# Altium schematic symbol library kmilo17pet-NSC_Amplifier.SchLib: 1665 symbols (part 31 of 44)
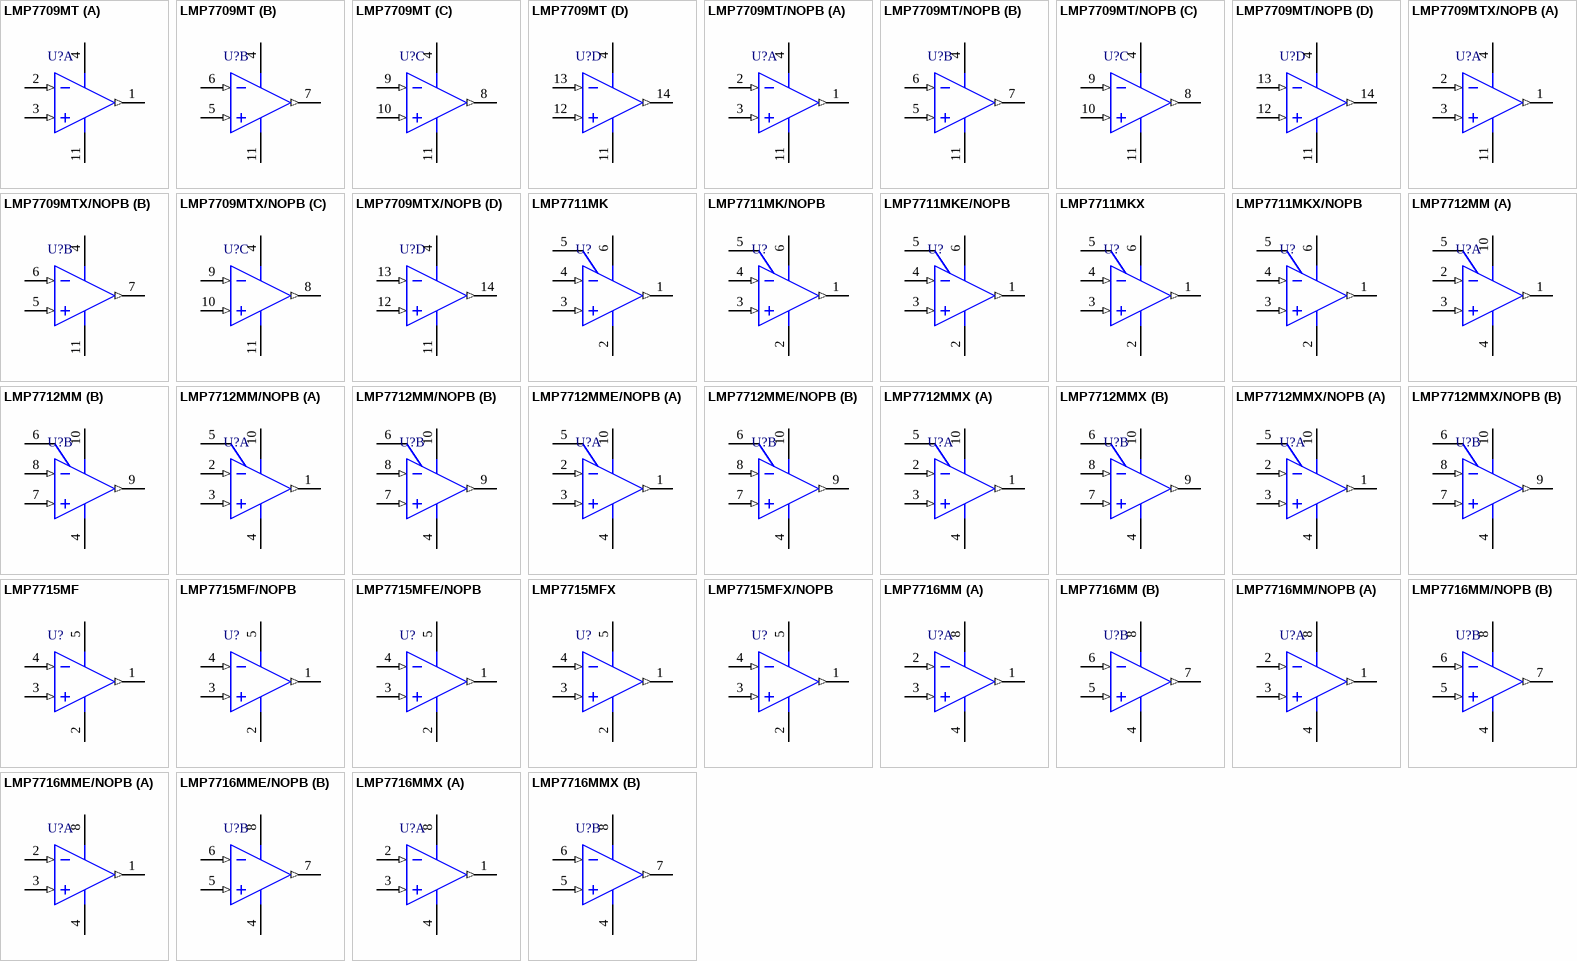
[diagram p114: symbols LMP7709MT to LMP7716MMX]

## LMP7712MM
designator U?
Dual Precision, 17 MHz, Low Noise, CMOS Input Amplifier, 10-pin MSOP; PartNumber: LMP7712MM; Manufacturer: National Semiconductor; PackageTopMarking: ZXTT*AD3A; PowerWise: Y; CompType: Amplifiers; DatasheetVersion: Jul-2008; PackageVersion: revB, Jul-2003; PackageReference: MUB10A; PackageDescription: Mini-SO, Molded, .118 x .118 x .034in Body, 10 Lead, .0197in Pitch; RoHS: Y; PinCount: 10; High-Reliability: Y; Code_JEDEC: MO-187-BA; ComponentLink1Description: Manufacturer URL; ComponentLink1URL: http://www.national.com/; ComponentLink2Description: LMP7712 Datasheet; ComponentLink2URL: http://www.national.com/ds/LM/LMP7712.pdf; ComponentLink3Description: LMP7712 Web Page; ComponentLink3URL: http://www.national.com/pf/LM/LMP7712.html; ComponentLink4Description: MUB10A Package Page; ComponentLink4URL: http://www.national.com/packaging/folders/mub10a.html
footprint MUB10A_N (TSSOP, 10-Leads, Body 3x3mm, Pitch 0.5mm, IPC Medium Density)
footprint MUB10A_L (TSSOP, 10-Leads, Body 3x3mm, Pitch 0.5mm, IPC High Density)
footprint MUB10A_M (TSSOP, 10-Leads, Body 3x3mm, Pitch 0.5mm, IPC Low Density)
pins on every part: 4 V- (power), 10 V+ (power)
part A pins: 1 OUTA (out), 2 INA- (in), 3 INA+ (in), 5 ENA
part B pins: 6 ENB, 7 INB+ (in), 8 INB- (in), 9 OUTB (out)

## LMP7712MM/NOPB
designator U?
Dual Precision, 17 MHz, Low Noise, CMOS Input Amplifier, 10-pin Mini SOIC, Pb-Free; PartNumber: LMP7712MM/NOPB; Manufacturer: National Semiconductor; PackageTopMarking: ZXTT*AD3A; PowerWise: Y; CompType: Amplifiers; DatasheetVersion: Jul-2008; PackageVersion: revB, Jul-2003; PackageReference: MUB10A; PackageDescription: Mini-SO, Molded, .118 x .118 x .034in Body, 10 Lead, .0197in Pitch; RoHS: Y; PinCount: 10; High-Reliability: Y; Code_JEDEC: MO-187-BA; ComponentLink1Description: Manufacturer URL; ComponentLink1URL: http://www.national.com/; ComponentLink2Description: LMP7712 Datasheet; ComponentLink2URL: http://www.national.com/ds/LM/LMP7712.pdf; ComponentLink3Description: LMP7712 Web Page; ComponentLink3URL: http://www.national.com/pf/LM/LMP7712.html; ComponentLink4Description: MUB10A Package Page; ComponentLink4URL: http://www.national.com/packaging/folders/mub10a.html
footprint MUB10A_N (TSSOP, 10-Leads, Body 3x3mm, Pitch 0.5mm, IPC Medium Density)
footprint MUB10A_L (TSSOP, 10-Leads, Body 3x3mm, Pitch 0.5mm, IPC High Density)
footprint MUB10A_M (TSSOP, 10-Leads, Body 3x3mm, Pitch 0.5mm, IPC Low Density)
pins on every part: 4 V- (power), 10 V+ (power)
part A pins: 1 OUTA (out), 2 INA- (in), 3 INA+ (in), 5 ENA
part B pins: 6 ENB, 7 INB+ (in), 8 INB- (in), 9 OUTB (out)

## LMP7712MME/NOPB
designator U?
Dual Precision, 17 MHz, Low Noise, CMOS Input Amplifier, 10-pin Mini SOIC, Pb-Free; PartNumber: LMP7712MME/NOPB; Manufacturer: National Semiconductor; PackageTopMarking: ZXTT*AD3A; PowerWise: N; CompType: Amplifiers; High-Reliability: Y; DatasheetVersion: Jul-2008; PackageVersion: revB, Jul-2003; PackageReference: MUB10A; PackageDescription: Mini-SO, Molded, .118 x .118 x .034in Body, 10 Lead, .0197in Pitch; RoHS: Y; PinCount: 10; Code_JEDEC: MO-187-BA; ComponentLink1Description: Manufacturer URL; ComponentLink1URL: http://www.national.com/; ComponentLink2Description: LMP7712 Datasheet; ComponentLink2URL: http://www.national.com/ds/LM/LMP7712.pdf; ComponentLink3Description: LMP7712 Web Page; ComponentLink3URL: http://www.national.com/pf/LM/LMP7712.html; ComponentLink4Description: MUB10A Package Page; ComponentLink4URL: http://www.national.com/packaging/folders/mub10a.html
footprint MUB10A_N (TSSOP, 10-Leads, Body 3x3mm, Pitch 0.5mm, IPC Medium Density)
footprint MUB10A_L (TSSOP, 10-Leads, Body 3x3mm, Pitch 0.5mm, IPC High Density)
footprint MUB10A_M (TSSOP, 10-Leads, Body 3x3mm, Pitch 0.5mm, IPC Low Density)
pins on every part: 4 V- (power), 10 V+ (power)
part A pins: 1 OUTA (out), 2 INA- (in), 3 INA+ (in), 5 ENA
part B pins: 6 ENB, 7 INB+ (in), 8 INB- (in), 9 OUTB (out)

## LMP7712MMX
designator U?
Dual Precision, 17 MHz, Low Noise, CMOS Input Amplifier, 10-pin Mini SOIC; PartNumber: LMP7712MMX; Manufacturer: National Semiconductor; PackageTopMarking: ZXTT*AD3A; PowerWise: Y; CompType: Amplifiers; DatasheetVersion: Jul-2008; PackageVersion: revB, Jul-2003; PackageReference: MUB10A; PackageDescription: Mini-SO, Molded, .118 x .118 x .034in Body, 10 Lead, .0197in Pitch; RoHS: N; PinCount: 10; High-Reliability: Y; Code_JEDEC: MO-187-BA; ComponentLink1Description: Manufacturer URL; ComponentLink1URL: http://www.national.com/; ComponentLink2Description: LMP7712 Datasheet; ComponentLink2URL: http://www.national.com/ds/LM/LMP7712.pdf; ComponentLink3Description: LMP7712 Web Page; ComponentLink3URL: http://www.national.com/pf/LM/LMP7712.html; ComponentLink4Description: MUB10A Package Page; ComponentLink4URL: http://www.national.com/packaging/folders/mub10a.html
footprint MUB10A_N (TSSOP, 10-Leads, Body 3x3mm, Pitch 0.5mm, IPC Medium Density)
footprint MUB10A_L (TSSOP, 10-Leads, Body 3x3mm, Pitch 0.5mm, IPC High Density)
footprint MUB10A_M (TSSOP, 10-Leads, Body 3x3mm, Pitch 0.5mm, IPC Low Density)
pins on every part: 4 V- (power), 10 V+ (power)
part A pins: 1 OUTA (out), 2 INA- (in), 3 INA+ (in), 5 ENA
part B pins: 6 ENB, 7 INB+ (in), 8 INB- (in), 9 OUTB (out)

## LMP7712MMX/NOPB
designator U?
Dual Precision, 17 MHz, Low Noise, CMOS Input Amplifier, 10-pin Mini SOIC, Pb-Free; PartNumber: LMP7712MMX/NOPB; Manufacturer: National Semiconductor; PackageTopMarking: ZXTT*AD3A; PowerWise: Y; CompType: Amplifiers; DatasheetVersion: Jul-2008; PackageVersion: revB, Jul-2003; PackageReference: MUB10A; PackageDescription: Mini-SO, Molded, .118 x .118 x .034in Body, 10 Lead, .0197in Pitch; RoHS: Y; PinCount: 10; High-Reliability: Y; Code_JEDEC: MO-187-BA; ComponentLink1Description: Manufacturer URL; ComponentLink1URL: http://www.national.com/; ComponentLink2Description: LMP7712 Datasheet; ComponentLink2URL: http://www.national.com/ds/LM/LMP7712.pdf; ComponentLink3Description: LMP7712 Web Page; ComponentLink3URL: http://www.national.com/pf/LM/LMP7712.html; ComponentLink4Description: MUB10A Package Page; ComponentLink4URL: http://www.national.com/packaging/folders/mub10a.html
footprint MUB10A_N (TSSOP, 10-Leads, Body 3x3mm, Pitch 0.5mm, IPC Medium Density)
footprint MUB10A_L (TSSOP, 10-Leads, Body 3x3mm, Pitch 0.5mm, IPC High Density)
footprint MUB10A_M (TSSOP, 10-Leads, Body 3x3mm, Pitch 0.5mm, IPC Low Density)
pins on every part: 4 V- (power), 10 V+ (power)
part A pins: 1 OUTA (out), 2 INA- (in), 3 INA+ (in), 5 ENA
part B pins: 6 ENB, 7 INB+ (in), 8 INB- (in), 9 OUTB (out)

## LMP7715MF
designator U?
Single Precision, 17 MHz, Low Noise, CMOS Input Amplifier, 5-pin SOT-23; PartNumber: LMP7715MF; Manufacturer: National Semiconductor; PackageTopMarking: AV3A*XTT; PowerWise: Y; CompType: Amplifiers; DatasheetVersion: Oct-2009; PackageVersion: revD, Aug-2008; PackageReference: MF05A; PackageDescription: Molded SOT-23, .115 x .063 x .040 in Body, 5 Lead, .0375 in Pitch; RoHS: N; PinCount: 5; High-Reliability: Y; ComponentLink1Description: Manufacturer URL; ComponentLink1URL: http://www.national.com/; ComponentLink2Description: LMP7715 Datasheet; ComponentLink2URL: http://www.national.com/ds/LM/LMP7715.pdf; ComponentLink3Description: LMP7715 Web Page; ComponentLink3URL: http://www.national.com/pf/LM/LMP7715.html; ComponentLink4Description: MF05A Package Page; ComponentLink4URL: http://www.national.com/packaging/folders/mf05a.html
footprint MF05A_N (SOT23, 5-Leads, Body 2.9x1.6mm, Pitch 0.95mm, Lead Span 2.8mm, IPC Medium Density)
footprint MF05A_L (SOT23, 5-Leads, Body 2.9x1.6mm, Pitch 0.95mm, Lead Span 2.8mm, IPC High Density)
footprint MF05A_M (SOT23, 5-Leads, Body 2.9x1.6mm, Pitch 0.95mm, Lead Span 2.8mm, IPC Low Density)
pins: 1 OUT (out), 2 V- (power), 3 IN+ (in), 4 IN- (in), 5 V+ (power)

## LMP7715MF/NOPB
designator U?
Single Precision, 17 MHz, Low Noise, CMOS Input Amplifier, 5-pin SOT-23, Pb-Free; PartNumber: LMP7715MF/NOPB; Manufacturer: National Semiconductor; PackageTopMarking: AV3A*XTT; PowerWise: Y; CompType: Amplifiers; DatasheetVersion: Oct-2009; PackageVersion: revD, Aug-2008; PackageReference: MF05A; PackageDescription: Molded SOT-23, .115 x .063 x .040 in Body, 5 Lead, .0375 in Pitch; RoHS: Y; PinCount: 5; High-Reliability: Y; ComponentLink1Description: Manufacturer URL; ComponentLink1URL: http://www.national.com/; ComponentLink2Description: LMP7715 Datasheet; ComponentLink2URL: http://www.national.com/ds/LM/LMP7715.pdf; ComponentLink3Description: LMP7715 Web Page; ComponentLink3URL: http://www.national.com/pf/LM/LMP7715.html; ComponentLink4Description: MF05A Package Page; ComponentLink4URL: http://www.national.com/packaging/folders/mf05a.html
footprint MF05A_N (SOT23, 5-Leads, Body 2.9x1.6mm, Pitch 0.95mm, Lead Span 2.8mm, IPC Medium Density)
footprint MF05A_L (SOT23, 5-Leads, Body 2.9x1.6mm, Pitch 0.95mm, Lead Span 2.8mm, IPC High Density)
footprint MF05A_M (SOT23, 5-Leads, Body 2.9x1.6mm, Pitch 0.95mm, Lead Span 2.8mm, IPC Low Density)
pins: 1 OUT (out), 2 V- (power), 3 IN+ (in), 4 IN- (in), 5 V+ (power)

## LMP7715MFE/NOPB
designator U?
Single Precision, 17 MHz, Low Noise, CMOS Input Amplifier, 5-pin SOT-23, Pb-Free; PartNumber: LMP7715MFE/NOPB; Manufacturer: National Semiconductor; PackageTopMarking: AV3A*XTT; PowerWise: N; CompType: Amplifiers; High-Reliability: Y; DatasheetVersion: Oct-2009; PackageVersion: revD, Aug-2008; PackageReference: MF05A; PackageDescription: Molded SOT-23, .115 x .063 x .040 in Body, 5 Lead, .0375 in Pitch; RoHS: Y; PinCount: 5; ComponentLink1Description: Manufacturer URL; ComponentLink1URL: http://www.national.com/; ComponentLink2Description: LMP7715 Datasheet; ComponentLink2URL: http://www.national.com/ds/LM/LMP7715.pdf; ComponentLink3Description: LMP7715 Web Page; ComponentLink3URL: http://www.national.com/pf/LM/LMP7715.html; ComponentLink4Description: MF05A Package Page; ComponentLink4URL: http://www.national.com/packaging/folders/mf05a.html
footprint MF05A_N (SOT23, 5-Leads, Body 2.9x1.6mm, Pitch 0.95mm, Lead Span 2.8mm, IPC Medium Density)
footprint MF05A_L (SOT23, 5-Leads, Body 2.9x1.6mm, Pitch 0.95mm, Lead Span 2.8mm, IPC High Density)
footprint MF05A_M (SOT23, 5-Leads, Body 2.9x1.6mm, Pitch 0.95mm, Lead Span 2.8mm, IPC Low Density)
pins: 1 OUT (out), 2 V- (power), 3 IN+ (in), 4 IN- (in), 5 V+ (power)

## LMP7715MFX
designator U?
Single Precision, 17 MHz, Low Noise, CMOS Input Amplifier, 5-pin SOT-23; PartNumber: LMP7715MFX; Manufacturer: National Semiconductor; PackageTopMarking: AV3A*XTT; PowerWise: Y; CompType: Amplifiers; DatasheetVersion: Oct-2009; PackageVersion: revD, Aug-2008; PackageReference: MF05A; PackageDescription: Molded SOT-23, .115 x .063 x .040 in Body, 5 Lead, .0375 in Pitch; RoHS: N; PinCount: 5; High-Reliability: Y; ComponentLink1Description: Manufacturer URL; ComponentLink1URL: http://www.national.com/; ComponentLink2Description: LMP7715 Datasheet; ComponentLink2URL: http://www.national.com/ds/LM/LMP7715.pdf; ComponentLink3Description: LMP7715 Web Page; ComponentLink3URL: http://www.national.com/pf/LM/LMP7715.html; ComponentLink4Description: MF05A Package Page; ComponentLink4URL: http://www.national.com/packaging/folders/mf05a.html
footprint MF05A_N (SOT23, 5-Leads, Body 2.9x1.6mm, Pitch 0.95mm, Lead Span 2.8mm, IPC Medium Density)
footprint MF05A_L (SOT23, 5-Leads, Body 2.9x1.6mm, Pitch 0.95mm, Lead Span 2.8mm, IPC High Density)
footprint MF05A_M (SOT23, 5-Leads, Body 2.9x1.6mm, Pitch 0.95mm, Lead Span 2.8mm, IPC Low Density)
pins: 1 OUT (out), 2 V- (power), 3 IN+ (in), 4 IN- (in), 5 V+ (power)

## LMP7715MFX/NOPB
designator U?
Single Precision, 17 MHz, Low Noise, CMOS Input Amplifier, 5-pin SOT-23, Pb-Free; PartNumber: LMP7715MFX/NOPB; Manufacturer: National Semiconductor; PackageTopMarking: AV3A*XTT; PowerWise: Y; CompType: Amplifiers; DatasheetVersion: Oct-2009; PackageVersion: revD, Aug-2008; PackageReference: MF05A; PackageDescription: Molded SOT-23, .115 x .063 x .040 in Body, 5 Lead, .0375 in Pitch; RoHS: Y; PinCount: 5; High-Reliability: Y; ComponentLink1Description: Manufacturer URL; ComponentLink1URL: http://www.national.com/; ComponentLink2Description: LMP7715 Datasheet; ComponentLink2URL: http://www.national.com/ds/LM/LMP7715.pdf; ComponentLink3Description: LMP7715 Web Page; ComponentLink3URL: http://www.national.com/pf/LM/LMP7715.html; ComponentLink4Description: MF05A Package Page; ComponentLink4URL: http://www.national.com/packaging/folders/mf05a.html
footprint MF05A_N (SOT23, 5-Leads, Body 2.9x1.6mm, Pitch 0.95mm, Lead Span 2.8mm, IPC Medium Density)
footprint MF05A_L (SOT23, 5-Leads, Body 2.9x1.6mm, Pitch 0.95mm, Lead Span 2.8mm, IPC High Density)
footprint MF05A_M (SOT23, 5-Leads, Body 2.9x1.6mm, Pitch 0.95mm, Lead Span 2.8mm, IPC Low Density)
pins: 1 OUT (out), 2 V- (power), 3 IN+ (in), 4 IN- (in), 5 V+ (power)

## LMP7716MM
designator U?
Dual Precision, 17 MHz, Low Noise, CMOS Input Amplifier, 8-pin Mini SOIC; PartNumber: LMP7716MM; Manufacturer: National Semiconductor; PackageTopMarking: ZXTT*AX3A; PowerWise: Y; CompType: Amplifiers; DatasheetVersion: Oct-2009; PackageVersion: revF, Apr-2008; PackageReference: MUA08A; PackageDescription: MINI SOIC, .118 x .118 x .034in, 8 Lead, .0256in Pitch; RoHS: N; PinCount: 8; High-Reliability: Y; Code_JEDEC: MO-187-AA; ComponentLink1Description: Manufacturer URL; ComponentLink1URL: http://www.national.com/; ComponentLink2Description: LMP7716 Datasheet; ComponentLink2URL: http://www.national.com/ds/LM/LMP7716.pdf; ComponentLink3Description: LMP7716 Web Page; ComponentLink3URL: http://www.national.com/pf/LM/LMP7716.html; ComponentLink4Description: MUA08A Package Page; ComponentLink4URL: http://www.national.com/packaging/folders/mua08a.html
footprint MUA08A_N (TSOP, 8-Leads, Body 3x3mm, Pitch 0.65mm, IPC Medium Density)
footprint MUA08A_L (TSOP, 8-Leads, Body 3x3mm, Pitch 0.65mm, IPC High Density)
footprint MUA08A_M (TSOP, 8-Leads, Body 3x3mm, Pitch 0.65mm, IPC Low Density)
pins on every part: 4 V- (power), 8 V+ (power)
part A pins: 1 OUTA (out), 2 INA- (in), 3 INA+ (in)
part B pins: 5 INB+ (in), 6 INB- (in), 7 OUTB (out)

## LMP7716MM/NOPB
designator U?
Dual Precision, 17 MHz, Low Noise, CMOS Input Amplifier, 8-pin Mini SOIC, Pb-Free; PartNumber: LMP7716MM/NOPB; Manufacturer: National Semiconductor; PackageTopMarking: ZXTT*AX3A; PowerWise: Y; CompType: Amplifiers; DatasheetVersion: Oct-2009; PackageVersion: revF, Apr-2008; PackageReference: MUA08A; PackageDescription: MINI SOIC, .118 x .118 x .034in, 8 Lead, .0256in Pitch; RoHS: Y; PinCount: 8; High-Reliability: Y; Code_JEDEC: MO-187-AA; ComponentLink1Description: Manufacturer URL; ComponentLink1URL: http://www.national.com/; ComponentLink2Description: LMP7716 Datasheet; ComponentLink2URL: http://www.national.com/ds/LM/LMP7716.pdf; ComponentLink3Description: LMP7716 Web Page; ComponentLink3URL: http://www.national.com/pf/LM/LMP7716.html; ComponentLink4Description: MUA08A Package Page; ComponentLink4URL: http://www.national.com/packaging/folders/mua08a.html
footprint MUA08A_N (TSOP, 8-Leads, Body 3x3mm, Pitch 0.65mm, IPC Medium Density)
footprint MUA08A_L (TSOP, 8-Leads, Body 3x3mm, Pitch 0.65mm, IPC High Density)
footprint MUA08A_M (TSOP, 8-Leads, Body 3x3mm, Pitch 0.65mm, IPC Low Density)
pins on every part: 4 V- (power), 8 V+ (power)
part A pins: 1 OUTA (out), 2 INA- (in), 3 INA+ (in)
part B pins: 5 INB+ (in), 6 INB- (in), 7 OUTB (out)

## LMP7716MME/NOPB
designator U?
Dual Precision, 17 MHz, Low Noise, CMOS Input Amplifier, 8-pin Mini SOIC, Pb-Free; PartNumber: LMP7716MME/NOPB; Manufacturer: National Semiconductor; PackageTopMarking: ZXTT*AX3A; PowerWise: Y; CompType: Amplifiers; DatasheetVersion: Oct-2009; PackageVersion: revF, Apr-2008; PackageReference: MUA08A; PackageDescription: MINI SOIC, .118 x .118 x .034in, 8 Lead, .0256in Pitch; RoHS: Y; PinCount: 8; High-Reliability: Y; Code_JEDEC: MO-187-AA; ComponentLink1Description: Manufacturer URL; ComponentLink1URL: http://www.national.com/; ComponentLink2Description: LMP7716 Datasheet; ComponentLink2URL: http://www.national.com/ds/LM/LMP7716.pdf; ComponentLink3Description: LMP7716 Web Page; ComponentLink3URL: http://www.national.com/pf/LM/LMP7716.html; ComponentLink4Description: MUA08A Package Page; ComponentLink4URL: http://www.national.com/packaging/folders/mua08a.html
footprint MUA08A_N (TSOP, 8-Leads, Body 3x3mm, Pitch 0.65mm, IPC Medium Density)
footprint MUA08A_L (TSOP, 8-Leads, Body 3x3mm, Pitch 0.65mm, IPC High Density)
footprint MUA08A_M (TSOP, 8-Leads, Body 3x3mm, Pitch 0.65mm, IPC Low Density)
pins on every part: 4 V- (power), 8 V+ (power)
part A pins: 1 OUTA (out), 2 INA- (in), 3 INA+ (in)
part B pins: 5 INB+ (in), 6 INB- (in), 7 OUTB (out)

## LMP7716MMX
designator U?
Dual Precision, 17 MHz, Low Noise, CMOS Input Amplifier, 8-pin Mini SOIC; PartNumber: LMP7716MMX; Manufacturer: National Semiconductor; PackageTopMarking: ZXTT*AX3A; PowerWise: Y; CompType: Amplifiers; DatasheetVersion: Oct-2009; PackageVersion: revF, Apr-2008; PackageReference: MUA08A; PackageDescription: MINI SOIC, .118 x .118 x .034in, 8 Lead, .0256in Pitch; RoHS: N; PinCount: 8; High-Reliability: Y; Code_JEDEC: MO-187-AA; ComponentLink1Description: Manufacturer URL; ComponentLink1URL: http://www.national.com/; ComponentLink2Description: LMP7716 Datasheet; ComponentLink2URL: http://www.national.com/ds/LM/LMP7716.pdf; ComponentLink3Description: LMP7716 Web Page; ComponentLink3URL: http://www.national.com/pf/LM/LMP7716.html; ComponentLink4Description: MUA08A Package Page; ComponentLink4URL: http://www.national.com/packaging/folders/mua08a.html
footprint MUA08A_N (TSOP, 8-Leads, Body 3x3mm, Pitch 0.65mm, IPC Medium Density)
footprint MUA08A_L (TSOP, 8-Leads, Body 3x3mm, Pitch 0.65mm, IPC High Density)
footprint MUA08A_M (TSOP, 8-Leads, Body 3x3mm, Pitch 0.65mm, IPC Low Density)
pins on every part: 4 V- (power), 8 V+ (power)
part A pins: 1 OUTA (out), 2 INA- (in), 3 INA+ (in)
part B pins: 5 INB+ (in), 6 INB- (in), 7 OUTB (out)

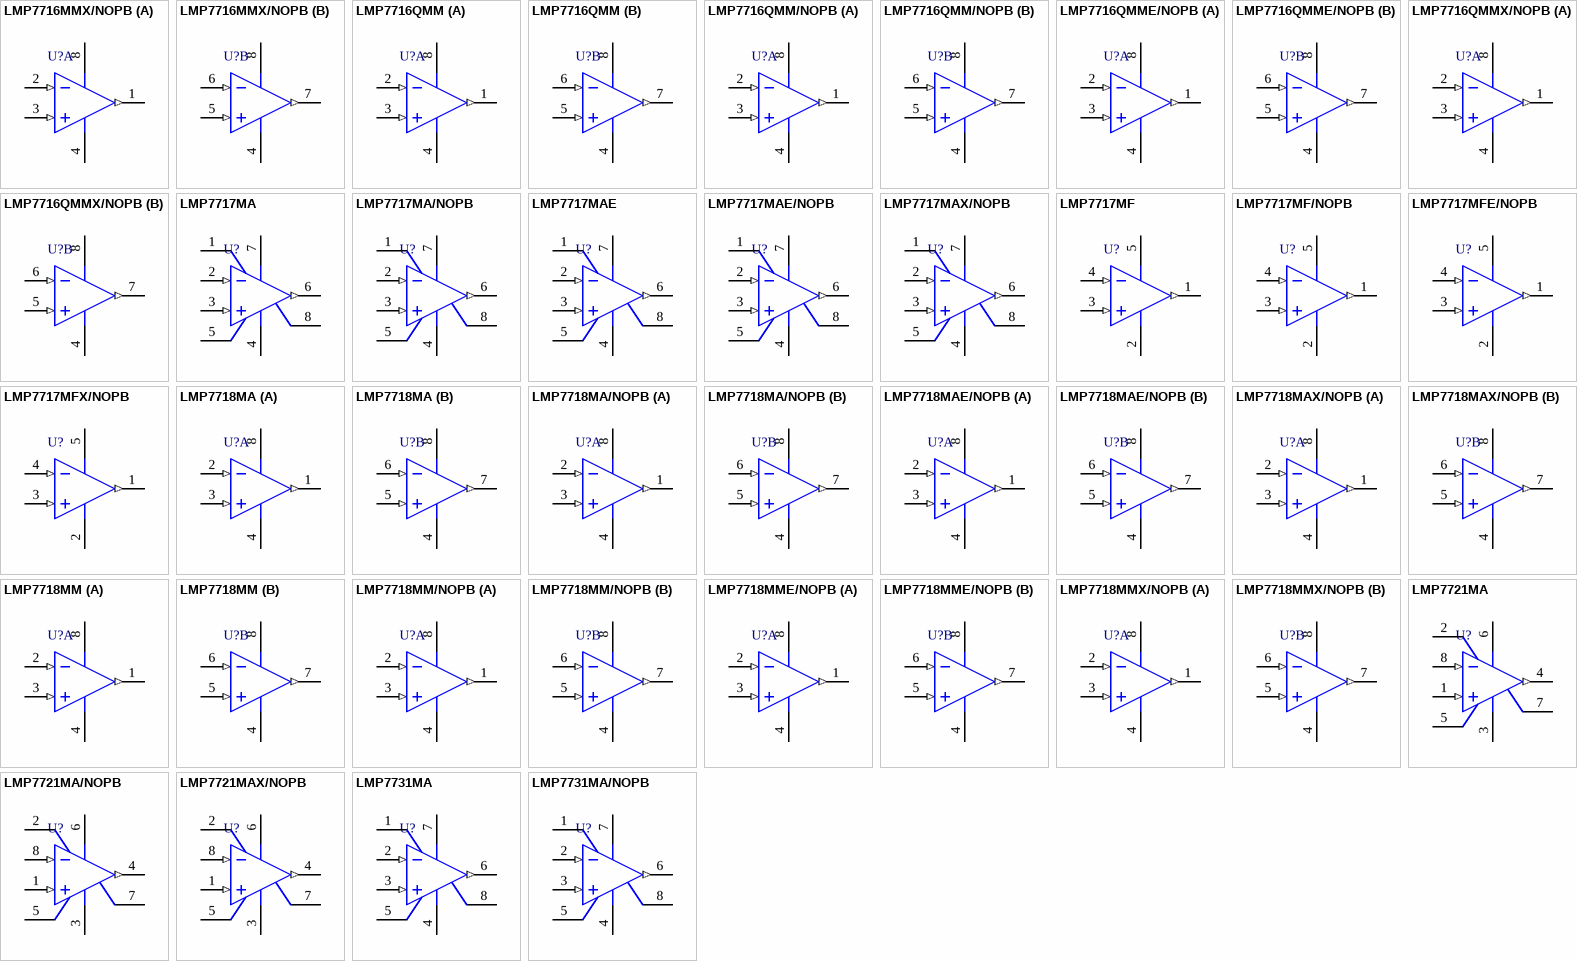
[diagram p62: symbols LMP7716MMX/NOPB to LMP7731MA/NOPB]

## LMP7716MMX/NOPB
designator U?
Dual Precision, 17 MHz, Low Noise, CMOS Input Amplifier, 8-pin Mini SOIC, Pb-Free; PartNumber: LMP7716MMX/NOPB; Manufacturer: National Semiconductor; PackageTopMarking: ZXTT*AX3A; PowerWise: Y; CompType: Amplifiers; DatasheetVersion: Oct-2009; PackageVersion: revF, Apr-2008; PackageReference: MUA08A; PackageDescription: MINI SOIC, .118 x .118 x .034in, 8 Lead, .0256in Pitch; RoHS: Y; PinCount: 8; High-Reliability: Y; Code_JEDEC: MO-187-AA; ComponentLink1Description: Manufacturer URL; ComponentLink1URL: http://www.national.com/; ComponentLink2Description: LMP7716 Datasheet; ComponentLink2URL: http://www.national.com/ds/LM/LMP7716.pdf; ComponentLink3Description: LMP7716 Web Page; ComponentLink3URL: http://www.national.com/pf/LM/LMP7716.html; ComponentLink4Description: MUA08A Package Page; ComponentLink4URL: http://www.national.com/packaging/folders/mua08a.html
footprint MUA08A_N (TSOP, 8-Leads, Body 3x3mm, Pitch 0.65mm, IPC Medium Density)
footprint MUA08A_L (TSOP, 8-Leads, Body 3x3mm, Pitch 0.65mm, IPC High Density)
footprint MUA08A_M (TSOP, 8-Leads, Body 3x3mm, Pitch 0.65mm, IPC Low Density)
pins on every part: 4 V- (power), 8 V+ (power)
part A pins: 1 OUTA (out), 2 INA- (in), 3 INA+ (in)
part B pins: 5 INB+ (in), 6 INB- (in), 7 OUTB (out)

## LMP7716QMM
designator U?
Dual Precision, 17 MHz, Low Noise, CMOS Input Amplifier, 8-pin Mini SOIC; PartNumber: LMP7716QMM; Manufacturer: National Semiconductor; PackageTopMarking: ZXTT*AR5A; PowerWise: Y; CompType: Amplifiers; DatasheetVersion: Oct-2009; PackageVersion: revF, Apr-2008; PackageReference: MUA08A; PackageDescription: MINI SOIC, .118 x .118 x .034in, 8 Lead, .0256in Pitch; RoHS: Y; PinCount: 8; High-Reliability: Y; Code_JEDEC: MO-187-AA; ComponentLink1Description: Manufacturer URL; ComponentLink1URL: http://www.national.com/; ComponentLink2Description: LMP7716 Datasheet; ComponentLink2URL: http://www.national.com/ds/LM/LMP7716.pdf; ComponentLink3Description: LMP7716 Web Page; ComponentLink3URL: http://www.national.com/pf/LM/LMP7716.html; ComponentLink4Description: MUA08A Package Page; ComponentLink4URL: http://www.national.com/packaging/folders/mua08a.html
footprint MUA08A_N (TSOP, 8-Leads, Body 3x3mm, Pitch 0.65mm, IPC Medium Density)
footprint MUA08A_L (TSOP, 8-Leads, Body 3x3mm, Pitch 0.65mm, IPC High Density)
footprint MUA08A_M (TSOP, 8-Leads, Body 3x3mm, Pitch 0.65mm, IPC Low Density)
pins on every part: 4 V- (power), 8 V+ (power)
part A pins: 1 OUTA (out), 2 INA- (in), 3 INA+ (in)
part B pins: 5 INB+ (in), 6 INB- (in), 7 OUTB (out)

## LMP7716QMM/NOPB
designator U?
Dual Precision, 17 MHz, Low Noise, CMOS Input Amplifier, 8-pin Mini SOIC, Pb-Free; PartNumber: LMP7716QMM/NOPB; Manufacturer: National Semiconductor; PackageTopMarking: ZXTT*AR5A; PowerWise: Y; CompType: Amplifiers; DatasheetVersion: Oct-2009; PackageVersion: revF, Apr-2008; PackageReference: MUA08A; PackageDescription: MINI SOIC, .118 x .118 x .034in, 8 Lead, .0256in Pitch; RoHS: Y; PinCount: 8; High-Reliability: Y; Code_JEDEC: MO-187-AA; ComponentLink1Description: Manufacturer URL; ComponentLink1URL: http://www.national.com/; ComponentLink2Description: LMP7716 Datasheet; ComponentLink2URL: http://www.national.com/ds/LM/LMP7716.pdf; ComponentLink3Description: LMP7716 Web Page; ComponentLink3URL: http://www.national.com/pf/LM/LMP7716.html; ComponentLink4Description: MUA08A Package Page; ComponentLink4URL: http://www.national.com/packaging/folders/mua08a.html
footprint MUA08A_N (TSOP, 8-Leads, Body 3x3mm, Pitch 0.65mm, IPC Medium Density)
footprint MUA08A_L (TSOP, 8-Leads, Body 3x3mm, Pitch 0.65mm, IPC High Density)
footprint MUA08A_M (TSOP, 8-Leads, Body 3x3mm, Pitch 0.65mm, IPC Low Density)
pins on every part: 4 V- (power), 8 V+ (power)
part A pins: 1 OUTA (out), 2 INA- (in), 3 INA+ (in)
part B pins: 5 INB+ (in), 6 INB- (in), 7 OUTB (out)

## LMP7716QMME/NOPB
designator U?
Dual Precision, 17 MHz, Low Noise, CMOS Input Amplifier, 8-pin Mini SOIC, Pb-Free; PartNumber: LMP7716QMME/NOPB; Manufacturer: National Semiconductor; PackageTopMarking: ZXTT*AR5A; PowerWise: Y; CompType: Amplifiers; DatasheetVersion: Oct-2009; PackageVersion: revF, Apr-2008; PackageReference: MUA08A; PackageDescription: MINI SOIC, .118 x .118 x .034in, 8 Lead, .0256in Pitch; RoHS: Y; PinCount: 8; High-Reliability: Y; Code_JEDEC: MO-187-AA; ComponentLink1Description: Manufacturer URL; ComponentLink1URL: http://www.national.com/; ComponentLink2Description: LMP7716 Datasheet; ComponentLink2URL: http://www.national.com/ds/LM/LMP7716.pdf; ComponentLink3Description: LMP7716 Web Page; ComponentLink3URL: http://www.national.com/pf/LM/LMP7716.html; ComponentLink4Description: MUA08A Package Page; ComponentLink4URL: http://www.national.com/packaging/folders/mua08a.html
footprint MUA08A_N (TSOP, 8-Leads, Body 3x3mm, Pitch 0.65mm, IPC Medium Density)
footprint MUA08A_L (TSOP, 8-Leads, Body 3x3mm, Pitch 0.65mm, IPC High Density)
footprint MUA08A_M (TSOP, 8-Leads, Body 3x3mm, Pitch 0.65mm, IPC Low Density)
pins on every part: 4 V- (power), 8 V+ (power)
part A pins: 1 OUTA (out), 2 INA- (in), 3 INA+ (in)
part B pins: 5 INB+ (in), 6 INB- (in), 7 OUTB (out)

## LMP7716QMMX/NOPB
designator U?
Dual Precision, 17 MHz, Low Noise, CMOS Input Amplifier, 8-pin Mini SOIC, Pb-Free; PartNumber: LMP7716QMMX/NOPB; Manufacturer: National Semiconductor; PackageTopMarking: ZXTT*AR5A; PowerWise: Y; CompType: Amplifiers; DatasheetVersion: Oct-2009; PackageVersion: revF, Apr-2008; PackageReference: MUA08A; PackageDescription: MINI SOIC, .118 x .118 x .034in, 8 Lead, .0256in Pitch; RoHS: Y; PinCount: 8; High-Reliability: Y; Code_JEDEC: MO-187-AA; ComponentLink1Description: Manufacturer URL; ComponentLink1URL: http://www.national.com/; ComponentLink2Description: LMP7716 Datasheet; ComponentLink2URL: http://www.national.com/ds/LM/LMP7716.pdf; ComponentLink3Description: LMP7716 Web Page; ComponentLink3URL: http://www.national.com/pf/LM/LMP7716.html; ComponentLink4Description: MUA08A Package Page; ComponentLink4URL: http://www.national.com/packaging/folders/mua08a.html
footprint MUA08A_N (TSOP, 8-Leads, Body 3x3mm, Pitch 0.65mm, IPC Medium Density)
footprint MUA08A_L (TSOP, 8-Leads, Body 3x3mm, Pitch 0.65mm, IPC High Density)
footprint MUA08A_M (TSOP, 8-Leads, Body 3x3mm, Pitch 0.65mm, IPC Low Density)
pins on every part: 4 V- (power), 8 V+ (power)
part A pins: 1 OUTA (out), 2 INA- (in), 3 INA+ (in)
part B pins: 5 INB+ (in), 6 INB- (in), 7 OUTB (out)

## LMP7717MA
designator U?
88 MHz, Precision, Low Noise, 1.8V CMOS Input, Decompensated Operational Amplifier, 8-pin Narrow SOIC; PartNumber: LMP7717MA; Manufacturer: National Semiconductor; PackageTopMarking: NSZXTT*LMP77*17MA; PowerWise: Y; CompType: Amplifiers; DatasheetVersion: Aug-2008; PackageVersion: revM, May-2009; PackageReference: M08A; PackageDescription: SOIC Narrow, 4.9 x 3.9 x 1.45mm, 8 Lead, 1.27mm Pitch; RoHS: Y; PinCount: 8; High-Reliability: Y; Code_JEDEC: MS-012-AA; Code_IPC: SOIC127P600-8; ComponentLink1Description: Manufacturer URL; ComponentLink1URL: http://www.national.com/; ComponentLink2Description: LMP7717 Datasheet; ComponentLink2URL: http://www.national.com/ds/LM/LMP7717.pdf; ComponentLink3Description: LMP7717 Web Page; ComponentLink3URL: http://www.national.com/pf/LM/LMP7717.html; ComponentLink4Description: M08A Package Page; ComponentLink4URL: http://www.national.com/packaging/folders/m08a.html
footprint M08A_N (SOIC, 8-Leads, Body 4.9x3.9mm, Pitch 1.27mm, IPC Medium Density)
footprint M08A_L (SOIC, 8-Leads, Body 4.9x3.9mm, Pitch 1.27mm, IPC High Density)
footprint M08A_M (SOIC, 8-Leads, Body 4.9x3.9mm, Pitch 1.27mm, IPC Low Density)
pins: 1 NC, 2 IN- (in), 3 IN+ (in), 4 V- (power), 5 NC, 6 OUT (out), 7 V+ (power), 8 NC

## LMP7717MA/NOPB
designator U?
88 MHz, Precision, Low Noise, 1.8V CMOS Input, Decompensated Operational Amplifier, 8-pin Narrow SOIC, Pb-Free; PartNumber: LMP7717MA/NOPB; Manufacturer: National Semiconductor; PackageTopMarking: NSZXTT*LMP77*17MA; PowerWise: Y; CompType: Amplifiers; DatasheetVersion: Aug-2008; PackageVersion: revM, May-2009; PackageReference: M08A; PackageDescription: SOIC Narrow, 4.9 x 3.9 x 1.45mm, 8 Lead, 1.27mm Pitch; RoHS: Y; PinCount: 8; High-Reliability: Y; Code_JEDEC: MS-012-AA; Code_IPC: SOIC127P600-8; ComponentLink1Description: Manufacturer URL; ComponentLink1URL: http://www.national.com/; ComponentLink2Description: LMP7717 Datasheet; ComponentLink2URL: http://www.national.com/ds/LM/LMP7717.pdf; ComponentLink3Description: LMP7717 Web Page; ComponentLink3URL: http://www.national.com/pf/LM/LMP7717.html; ComponentLink4Description: M08A Package Page; ComponentLink4URL: http://www.national.com/packaging/folders/m08a.html
footprint M08A_N (SOIC, 8-Leads, Body 4.9x3.9mm, Pitch 1.27mm, IPC Medium Density)
footprint M08A_L (SOIC, 8-Leads, Body 4.9x3.9mm, Pitch 1.27mm, IPC High Density)
footprint M08A_M (SOIC, 8-Leads, Body 4.9x3.9mm, Pitch 1.27mm, IPC Low Density)
pins: 1 NC, 2 IN- (in), 3 IN+ (in), 4 V- (power), 5 NC, 6 OUT (out), 7 V+ (power), 8 NC

## LMP7717MAE
designator U?
88 MHz, Precision, Low Noise, 1.8V CMOS Input, Decompensated Operational Amplifier, 8-pin Narrow SOIC; PartNumber: LMP7717MAE; Manufacturer: National Semiconductor; PackageTopMarking: NSZXTT*LMP77*17MA; PowerWise: N; CompType: Amplifiers; High-Reliability: Y; DatasheetVersion: Aug-2008; PackageVersion: revM, May-2009; PackageReference: M08A; PackageDescription: SOIC Narrow, 4.9 x 3.9 x 1.45mm, 8 Lead, 1.27mm Pitch; RoHS: N; PinCount: 8; Code_JEDEC: MS-012-AA; Code_IPC: SOIC127P600-8; ComponentLink1Description: Manufacturer URL; ComponentLink1URL: http://www.national.com/; ComponentLink2Description: LMP7717 Datasheet; ComponentLink2URL: http://www.national.com/ds/LM/LMP7717.pdf; ComponentLink3Description: LMP7717 Web Page; ComponentLink3URL: http://www.national.com/pf/LM/LMP7717.html; ComponentLink4Description: M08A Package Page; ComponentLink4URL: http://www.national.com/packaging/folders/m08a.html
footprint M08A_N (SOIC, 8-Leads, Body 4.9x3.9mm, Pitch 1.27mm, IPC Medium Density)
footprint M08A_L (SOIC, 8-Leads, Body 4.9x3.9mm, Pitch 1.27mm, IPC High Density)
footprint M08A_M (SOIC, 8-Leads, Body 4.9x3.9mm, Pitch 1.27mm, IPC Low Density)
pins: 1 NC, 2 IN- (in), 3 IN+ (in), 4 V- (power), 5 NC, 6 OUT (out), 7 V+ (power), 8 NC

## LMP7717MAE/NOPB
designator U?
88 MHz, Precision, Low Noise, 1.8V CMOS Input, Decompensated Operational Amplifier, 8-pin Narrow SOIC, Pb-Free; PartNumber: LMP7717MAE/NOPB; Manufacturer: National Semiconductor; PackageTopMarking: NSZXTT*LMP77*17MA; PowerWise: N; CompType: Amplifiers; High-Reliability: Y; DatasheetVersion: Aug-2008; PackageVersion: revM, May-2009; PackageReference: M08A; PackageDescription: SOIC Narrow, 4.9 x 3.9 x 1.45mm, 8 Lead, 1.27mm Pitch; RoHS: Y; PinCount: 8; Code_JEDEC: MS-012-AA; Code_IPC: SOIC127P600-8; ComponentLink1Description: Manufacturer URL; ComponentLink1URL: http://www.national.com/; ComponentLink2Description: LMP7717 Datasheet; ComponentLink2URL: http://www.national.com/ds/LM/LMP7717.pdf; ComponentLink3Description: LMP7717 Web Page; ComponentLink3URL: http://www.national.com/pf/LM/LMP7717.html; ComponentLink4Description: M08A Package Page; ComponentLink4URL: http://www.national.com/packaging/folders/m08a.html
footprint M08A_N (SOIC, 8-Leads, Body 4.9x3.9mm, Pitch 1.27mm, IPC Medium Density)
footprint M08A_L (SOIC, 8-Leads, Body 4.9x3.9mm, Pitch 1.27mm, IPC High Density)
footprint M08A_M (SOIC, 8-Leads, Body 4.9x3.9mm, Pitch 1.27mm, IPC Low Density)
pins: 1 NC, 2 IN- (in), 3 IN+ (in), 4 V- (power), 5 NC, 6 OUT (out), 7 V+ (power), 8 NC

## LMP7717MAX/NOPB
designator U?
88 MHz, Precision, Low Noise, 1.8V CMOS Input, Decompensated Operational Amplifier, 8-pin Narrow SOIC, Pb-Free; PartNumber: LMP7717MAX/NOPB; Manufacturer: National Semiconductor; PackageTopMarking: NSZXTT*LMP77*17MA; PowerWise: Y; CompType: Amplifiers; DatasheetVersion: Aug-2008; PackageVersion: revM, May-2009; PackageReference: M08A; PackageDescription: SOIC Narrow, 4.9 x 3.9 x 1.45mm, 8 Lead, 1.27mm Pitch; RoHS: Y; PinCount: 8; High-Reliability: Y; Code_JEDEC: MS-012-AA; Code_IPC: SOIC127P600-8; ComponentLink1Description: Manufacturer URL; ComponentLink1URL: http://www.national.com/; ComponentLink2Description: LMP7717 Datasheet; ComponentLink2URL: http://www.national.com/ds/LM/LMP7717.pdf; ComponentLink3Description: LMP7717 Web Page; ComponentLink3URL: http://www.national.com/pf/LM/LMP7717.html; ComponentLink4Description: M08A Package Page; ComponentLink4URL: http://www.national.com/packaging/folders/m08a.html
footprint M08A_N (SOIC, 8-Leads, Body 4.9x3.9mm, Pitch 1.27mm, IPC Medium Density)
footprint M08A_L (SOIC, 8-Leads, Body 4.9x3.9mm, Pitch 1.27mm, IPC High Density)
footprint M08A_M (SOIC, 8-Leads, Body 4.9x3.9mm, Pitch 1.27mm, IPC Low Density)
pins: 1 NC, 2 IN- (in), 3 IN+ (in), 4 V- (power), 5 NC, 6 OUT (out), 7 V+ (power), 8 NC

## LMP7717MF
designator U?
88 MHz, Precision, Low Noise, 1.8V CMOS Input, Decompensated Operational Amplifier, 5-pin SOT-23; PartNumber: LMP7717MF; Manufacturer: National Semiconductor; PackageTopMarking: AT4A*XTT; PowerWise: Y; CompType: Amplifiers; DatasheetVersion: Aug-2008; PackageVersion: revD, Aug-2008; PackageReference: MF05A; PackageDescription: Molded SOT-23, .115 x .063 x .040 in Body, 5 Lead, .0375 in Pitch; RoHS: Y; PinCount: 5; High-Reliability: Y; ComponentLink1Description: Manufacturer URL; ComponentLink1URL: http://www.national.com/; ComponentLink2Description: LMP7717 Datasheet; ComponentLink2URL: http://www.national.com/ds/LM/LMP7717.pdf; ComponentLink3Description: LMP7717 Web Page; ComponentLink3URL: http://www.national.com/pf/LM/LMP7717.html; ComponentLink4Description: MF05A Package Page; ComponentLink4URL: http://www.national.com/packaging/folders/mf05a.html
footprint MF05A_N (SOT23, 5-Leads, Body 2.9x1.6mm, Pitch 0.95mm, Lead Span 2.8mm, IPC Medium Density)
footprint MF05A_L (SOT23, 5-Leads, Body 2.9x1.6mm, Pitch 0.95mm, Lead Span 2.8mm, IPC High Density)
footprint MF05A_M (SOT23, 5-Leads, Body 2.9x1.6mm, Pitch 0.95mm, Lead Span 2.8mm, IPC Low Density)
pins: 1 OUT (out), 2 V- (power), 3 IN+ (in), 4 IN- (in), 5 V+ (power)

## LMP7717MF/NOPB
designator U?
88 MHz, Precision, Low Noise, 1.8V CMOS Input, Decompensated Operational Amplifier, 5-pin SOT-23, Pb-Free; PartNumber: LMP7717MF/NOPB; Manufacturer: National Semiconductor; PackageTopMarking: AT4A*XTT; PowerWise: Y; CompType: Amplifiers; DatasheetVersion: Aug-2008; PackageVersion: revD, Aug-2008; PackageReference: MF05A; PackageDescription: Molded SOT-23, .115 x .063 x .040 in Body, 5 Lead, .0375 in Pitch; RoHS: Y; PinCount: 5; High-Reliability: Y; ComponentLink1Description: Manufacturer URL; ComponentLink1URL: http://www.national.com/; ComponentLink2Description: LMP7717 Datasheet; ComponentLink2URL: http://www.national.com/ds/LM/LMP7717.pdf; ComponentLink3Description: LMP7717 Web Page; ComponentLink3URL: http://www.national.com/pf/LM/LMP7717.html; ComponentLink4Description: MF05A Package Page; ComponentLink4URL: http://www.national.com/packaging/folders/mf05a.html
footprint MF05A_N (SOT23, 5-Leads, Body 2.9x1.6mm, Pitch 0.95mm, Lead Span 2.8mm, IPC Medium Density)
footprint MF05A_L (SOT23, 5-Leads, Body 2.9x1.6mm, Pitch 0.95mm, Lead Span 2.8mm, IPC High Density)
footprint MF05A_M (SOT23, 5-Leads, Body 2.9x1.6mm, Pitch 0.95mm, Lead Span 2.8mm, IPC Low Density)
pins: 1 OUT (out), 2 V- (power), 3 IN+ (in), 4 IN- (in), 5 V+ (power)

## LMP7717MFE/NOPB
designator U?
88 MHz, Precision, Low Noise, 1.8V CMOS Input, Decompensated Operational Amplifier, 5-pin SOT-23, Pb-Free; PartNumber: LMP7717MFE/NOPB; Manufacturer: National Semiconductor; PackageTopMarking: AT4A*XTT; PowerWise: N; CompType: Amplifiers; High-Reliability: Y; DatasheetVersion: Aug-2008; PackageVersion: revD, Aug-2008; PackageReference: MF05A; PackageDescription: Molded SOT-23, .115 x .063 x .040 in Body, 5 Lead, .0375 in Pitch; RoHS: Y; PinCount: 5; ComponentLink1Description: Manufacturer URL; ComponentLink1URL: http://www.national.com/; ComponentLink2Description: LMP7717 Datasheet; ComponentLink2URL: http://www.national.com/ds/LM/LMP7717.pdf; ComponentLink3Description: LMP7717 Web Page; ComponentLink3URL: http://www.national.com/pf/LM/LMP7717.html; ComponentLink4Description: MF05A Package Page; ComponentLink4URL: http://www.national.com/packaging/folders/mf05a.html
footprint MF05A_N (SOT23, 5-Leads, Body 2.9x1.6mm, Pitch 0.95mm, Lead Span 2.8mm, IPC Medium Density)
footprint MF05A_L (SOT23, 5-Leads, Body 2.9x1.6mm, Pitch 0.95mm, Lead Span 2.8mm, IPC High Density)
footprint MF05A_M (SOT23, 5-Leads, Body 2.9x1.6mm, Pitch 0.95mm, Lead Span 2.8mm, IPC Low Density)
pins: 1 OUT (out), 2 V- (power), 3 IN+ (in), 4 IN- (in), 5 V+ (power)

## LMP7717MFX/NOPB
designator U?
88 MHz, Precision, Low Noise, 1.8V CMOS Input, Decompensated Operational Amplifier, 5-pin SOT-23, Pb-Free; PartNumber: LMP7717MFX/NOPB; Manufacturer: National Semiconductor; PackageTopMarking: AT4A*XTT; PowerWise: Y; CompType: Amplifiers; DatasheetVersion: Aug-2008; PackageVersion: revD, Aug-2008; PackageReference: MF05A; PackageDescription: Molded SOT-23, .115 x .063 x .040 in Body, 5 Lead, .0375 in Pitch; RoHS: Y; PinCount: 5; High-Reliability: Y; ComponentLink1Description: Manufacturer URL; ComponentLink1URL: http://www.national.com/; ComponentLink2Description: LMP7717 Datasheet; ComponentLink2URL: http://www.national.com/ds/LM/LMP7717.pdf; ComponentLink3Description: LMP7717 Web Page; ComponentLink3URL: http://www.national.com/pf/LM/LMP7717.html; ComponentLink4Description: MF05A Package Page; ComponentLink4URL: http://www.national.com/packaging/folders/mf05a.html
footprint MF05A_N (SOT23, 5-Leads, Body 2.9x1.6mm, Pitch 0.95mm, Lead Span 2.8mm, IPC Medium Density)
footprint MF05A_L (SOT23, 5-Leads, Body 2.9x1.6mm, Pitch 0.95mm, Lead Span 2.8mm, IPC High Density)
footprint MF05A_M (SOT23, 5-Leads, Body 2.9x1.6mm, Pitch 0.95mm, Lead Span 2.8mm, IPC Low Density)
pins: 1 OUT (out), 2 V- (power), 3 IN+ (in), 4 IN- (in), 5 V+ (power)

## LMP7718MA
designator U?
88 MHz, Precision, Low Noise, 1.8V CMOS Input, Decompensated Operational Amplifier, 8-pin Narrow SOIC; PartNumber: LMP7718MA; Manufacturer: National Semiconductor; PackageTopMarking: NSZXTT*LMP77*18MA; PowerWise: Y; CompType: Amplifiers; DatasheetVersion: Aug-2008; PackageVersion: revM, May-2009; PackageReference: M08A; PackageDescription: SOIC Narrow, 4.9 x 3.9 x 1.45mm, 8 Lead, 1.27mm Pitch; RoHS: Y; PinCount: 8; High-Reliability: Y; Code_JEDEC: MS-012-AA; Code_IPC: SOIC127P600-8; ComponentLink1Description: Manufacturer URL; ComponentLink1URL: http://www.national.com/; ComponentLink2Description: LMP7718 Datasheet; ComponentLink2URL: http://www.national.com/ds/LM/LMP7718.pdf; ComponentLink3Description: LMP7718 Web Page; ComponentLink3URL: http://www.national.com/pf/LM/LMP7718.html; ComponentLink4Description: M08A Package Page; ComponentLink4URL: http://www.national.com/packaging/folders/m08a.html
footprint M08A_N (SOIC, 8-Leads, Body 4.9x3.9mm, Pitch 1.27mm, IPC Medium Density)
footprint M08A_L (SOIC, 8-Leads, Body 4.9x3.9mm, Pitch 1.27mm, IPC High Density)
footprint M08A_M (SOIC, 8-Leads, Body 4.9x3.9mm, Pitch 1.27mm, IPC Low Density)
pins on every part: 4 V- (power), 8 V+ (power)
part A pins: 1 OUTA (out), 2 INA- (in), 3 INA+ (in)
part B pins: 5 INB+ (in), 6 INB- (in), 7 OUTB (out)

## LMP7718MA/NOPB
designator U?
88 MHz, Precision, Low Noise, 1.8V CMOS Input, Decompensated Operational Amplifier, 8-pin Narrow SOIC, Pb-Free; PartNumber: LMP7718MA/NOPB; Manufacturer: National Semiconductor; PackageTopMarking: NSZXTT*LMP77*18MA; PowerWise: Y; CompType: Amplifiers; DatasheetVersion: Aug-2008; PackageVersion: revM, May-2009; PackageReference: M08A; PackageDescription: SOIC Narrow, 4.9 x 3.9 x 1.45mm, 8 Lead, 1.27mm Pitch; RoHS: Y; PinCount: 8; High-Reliability: Y; Code_JEDEC: MS-012-AA; Code_IPC: SOIC127P600-8; ComponentLink1Description: Manufacturer URL; ComponentLink1URL: http://www.national.com/; ComponentLink2Description: LMP7718 Datasheet; ComponentLink2URL: http://www.national.com/ds/LM/LMP7718.pdf; ComponentLink3Description: LMP7718 Web Page; ComponentLink3URL: http://www.national.com/pf/LM/LMP7718.html; ComponentLink4Description: M08A Package Page; ComponentLink4URL: http://www.national.com/packaging/folders/m08a.html
footprint M08A_N (SOIC, 8-Leads, Body 4.9x3.9mm, Pitch 1.27mm, IPC Medium Density)
footprint M08A_L (SOIC, 8-Leads, Body 4.9x3.9mm, Pitch 1.27mm, IPC High Density)
footprint M08A_M (SOIC, 8-Leads, Body 4.9x3.9mm, Pitch 1.27mm, IPC Low Density)
pins on every part: 4 V- (power), 8 V+ (power)
part A pins: 1 OUTA (out), 2 INA- (in), 3 INA+ (in)
part B pins: 5 INB+ (in), 6 INB- (in), 7 OUTB (out)

## LMP7718MAE/NOPB
designator U?
88 MHz, Precision, Low Noise, 1.8V CMOS Input, Decompensated Operational Amplifier, 8-pin Narrow SOIC, Pb-Free; PartNumber: LMP7718MAE/NOPB; Manufacturer: National Semiconductor; PackageTopMarking: NSZXTT*LMP77*18MA; PowerWise: Y; CompType: Amplifiers; DatasheetVersion: Aug-2008; PackageVersion: revM, May-2009; PackageReference: M08A; PackageDescription: SOIC Narrow, 4.9 x 3.9 x 1.45mm, 8 Lead, 1.27mm Pitch; RoHS: Y; PinCount: 8; High-Reliability: Y; Code_JEDEC: MS-012-AA; Code_IPC: SOIC127P600-8; ComponentLink1Description: Manufacturer URL; ComponentLink1URL: http://www.national.com/; ComponentLink2Description: LMP7718 Datasheet; ComponentLink2URL: http://www.national.com/ds/LM/LMP7718.pdf; ComponentLink3Description: LMP7718 Web Page; ComponentLink3URL: http://www.national.com/pf/LM/LMP7718.html; ComponentLink4Description: M08A Package Page; ComponentLink4URL: http://www.national.com/packaging/folders/m08a.html
footprint M08A_N (SOIC, 8-Leads, Body 4.9x3.9mm, Pitch 1.27mm, IPC Medium Density)
footprint M08A_L (SOIC, 8-Leads, Body 4.9x3.9mm, Pitch 1.27mm, IPC High Density)
footprint M08A_M (SOIC, 8-Leads, Body 4.9x3.9mm, Pitch 1.27mm, IPC Low Density)
pins on every part: 4 V- (power), 8 V+ (power)
part A pins: 1 OUTA (out), 2 INA- (in), 3 INA+ (in)
part B pins: 5 INB+ (in), 6 INB- (in), 7 OUTB (out)

## LMP7718MAX/NOPB
designator U?
88 MHz, Precision, Low Noise, 1.8V CMOS Input, Decompensated Operational Amplifier, 8-pin Narrow SOIC, Pb-Free; PartNumber: LMP7718MAX/NOPB; Manufacturer: National Semiconductor; PackageTopMarking: NSZXTT*LMP77*18MA; PowerWise: Y; CompType: Amplifiers; DatasheetVersion: Aug-2008; PackageVersion: revM, May-2009; PackageReference: M08A; PackageDescription: SOIC Narrow, 4.9 x 3.9 x 1.45mm, 8 Lead, 1.27mm Pitch; RoHS: Y; PinCount: 8; High-Reliability: Y; Code_JEDEC: MS-012-AA; Code_IPC: SOIC127P600-8; ComponentLink1Description: Manufacturer URL; ComponentLink1URL: http://www.national.com/; ComponentLink2Description: LMP7718 Datasheet; ComponentLink2URL: http://www.national.com/ds/LM/LMP7718.pdf; ComponentLink3Description: LMP7718 Web Page; ComponentLink3URL: http://www.national.com/pf/LM/LMP7718.html; ComponentLink4Description: M08A Package Page; ComponentLink4URL: http://www.national.com/packaging/folders/m08a.html
footprint M08A_N (SOIC, 8-Leads, Body 4.9x3.9mm, Pitch 1.27mm, IPC Medium Density)
footprint M08A_L (SOIC, 8-Leads, Body 4.9x3.9mm, Pitch 1.27mm, IPC High Density)
footprint M08A_M (SOIC, 8-Leads, Body 4.9x3.9mm, Pitch 1.27mm, IPC Low Density)
pins on every part: 4 V- (power), 8 V+ (power)
part A pins: 1 OUTA (out), 2 INA- (in), 3 INA+ (in)
part B pins: 5 INB+ (in), 6 INB- (in), 7 OUTB (out)

## LMP7718MM
designator U?
88 MHz, Precision, Low Noise, 1.8V CMOS Input, Decompensated Operational Amplifier, 8-pin Mini SOIC; PartNumber: LMP7718MM; Manufacturer: National Semiconductor; PackageTopMarking: ZXTT*AP4A; PowerWise: Y; CompType: Amplifiers; DatasheetVersion: Aug-2008; PackageVersion: revF, Apr-2008; PackageReference: MUA08A; PackageDescription: MINI SOIC, .118 x .118 x .034in, 8 Lead, .0256in Pitch; RoHS: Y; PinCount: 8; High-Reliability: Y; Code_JEDEC: MO-187-AA; ComponentLink1Description: Manufacturer URL; ComponentLink1URL: http://www.national.com/; ComponentLink2Description: LMP7718 Datasheet; ComponentLink2URL: http://www.national.com/ds/LM/LMP7718.pdf; ComponentLink3Description: LMP7718 Web Page; ComponentLink3URL: http://www.national.com/pf/LM/LMP7718.html; ComponentLink4Description: MUA08A Package Page; ComponentLink4URL: http://www.national.com/packaging/folders/mua08a.html
footprint MUA08A_N (TSOP, 8-Leads, Body 3x3mm, Pitch 0.65mm, IPC Medium Density)
footprint MUA08A_L (TSOP, 8-Leads, Body 3x3mm, Pitch 0.65mm, IPC High Density)
footprint MUA08A_M (TSOP, 8-Leads, Body 3x3mm, Pitch 0.65mm, IPC Low Density)
pins on every part: 4 V- (power), 8 V+ (power)
part A pins: 1 OUTA (out), 2 INA- (in), 3 INA+ (in)
part B pins: 5 INB+ (in), 6 INB- (in), 7 OUTB (out)

## LMP7718MM/NOPB
designator U?
88 MHz, Precision, Low Noise, 1.8V CMOS Input, Decompensated Operational Amplifier, 8-pin Mini SOIC, Pb-Free; PartNumber: LMP7718MM/NOPB; Manufacturer: National Semiconductor; PackageTopMarking: ZXTT*AP4A; PowerWise: Y; CompType: Amplifiers; DatasheetVersion: Aug-2008; PackageVersion: revF, Apr-2008; PackageReference: MUA08A; PackageDescription: MINI SOIC, .118 x .118 x .034in, 8 Lead, .0256in Pitch; RoHS: Y; PinCount: 8; High-Reliability: Y; Code_JEDEC: MO-187-AA; ComponentLink1Description: Manufacturer URL; ComponentLink1URL: http://www.national.com/; ComponentLink2Description: LMP7718 Datasheet; ComponentLink2URL: http://www.national.com/ds/LM/LMP7718.pdf; ComponentLink3Description: LMP7718 Web Page; ComponentLink3URL: http://www.national.com/pf/LM/LMP7718.html; ComponentLink4Description: MUA08A Package Page; ComponentLink4URL: http://www.national.com/packaging/folders/mua08a.html
footprint MUA08A_N (TSOP, 8-Leads, Body 3x3mm, Pitch 0.65mm, IPC Medium Density)
footprint MUA08A_L (TSOP, 8-Leads, Body 3x3mm, Pitch 0.65mm, IPC High Density)
footprint MUA08A_M (TSOP, 8-Leads, Body 3x3mm, Pitch 0.65mm, IPC Low Density)
pins on every part: 4 V- (power), 8 V+ (power)
part A pins: 1 OUTA (out), 2 INA- (in), 3 INA+ (in)
part B pins: 5 INB+ (in), 6 INB- (in), 7 OUTB (out)

## LMP7718MME/NOPB
designator U?
88 MHz, Precision, Low Noise, 1.8V CMOS Input, Decompensated Operational Amplifier, 8-pin Mini SOIC, Pb-Free; PartNumber: LMP7718MME/NOPB; Manufacturer: National Semiconductor; PackageTopMarking: ZXTT*AP4A; PowerWise: Y; CompType: Amplifiers; DatasheetVersion: Aug-2008; PackageVersion: revF, Apr-2008; PackageReference: MUA08A; PackageDescription: MINI SOIC, .118 x .118 x .034in, 8 Lead, .0256in Pitch; RoHS: Y; PinCount: 8; High-Reliability: Y; Code_JEDEC: MO-187-AA; ComponentLink1Description: Manufacturer URL; ComponentLink1URL: http://www.national.com/; ComponentLink2Description: LMP7718 Datasheet; ComponentLink2URL: http://www.national.com/ds/LM/LMP7718.pdf; ComponentLink3Description: LMP7718 Web Page; ComponentLink3URL: http://www.national.com/pf/LM/LMP7718.html; ComponentLink4Description: MUA08A Package Page; ComponentLink4URL: http://www.national.com/packaging/folders/mua08a.html
footprint MUA08A_N (TSOP, 8-Leads, Body 3x3mm, Pitch 0.65mm, IPC Medium Density)
footprint MUA08A_L (TSOP, 8-Leads, Body 3x3mm, Pitch 0.65mm, IPC High Density)
footprint MUA08A_M (TSOP, 8-Leads, Body 3x3mm, Pitch 0.65mm, IPC Low Density)
pins on every part: 4 V- (power), 8 V+ (power)
part A pins: 1 OUTA (out), 2 INA- (in), 3 INA+ (in)
part B pins: 5 INB+ (in), 6 INB- (in), 7 OUTB (out)

## LMP7718MMX/NOPB
designator U?
88 MHz, Precision, Low Noise, 1.8V CMOS Input, Decompensated Operational Amplifier, 8-pin Mini SOIC, Pb-Free; PartNumber: LMP7718MMX/NOPB; Manufacturer: National Semiconductor; PackageTopMarking: ZXTT*AP4A; PowerWise: Y; CompType: Amplifiers; DatasheetVersion: Aug-2008; PackageVersion: revF, Apr-2008; PackageReference: MUA08A; PackageDescription: MINI SOIC, .118 x .118 x .034in, 8 Lead, .0256in Pitch; RoHS: Y; PinCount: 8; High-Reliability: Y; Code_JEDEC: MO-187-AA; ComponentLink1Description: Manufacturer URL; ComponentLink1URL: http://www.national.com/; ComponentLink2Description: LMP7718 Datasheet; ComponentLink2URL: http://www.national.com/ds/LM/LMP7718.pdf; ComponentLink3Description: LMP7718 Web Page; ComponentLink3URL: http://www.national.com/pf/LM/LMP7718.html; ComponentLink4Description: MUA08A Package Page; ComponentLink4URL: http://www.national.com/packaging/folders/mua08a.html
footprint MUA08A_N (TSOP, 8-Leads, Body 3x3mm, Pitch 0.65mm, IPC Medium Density)
footprint MUA08A_L (TSOP, 8-Leads, Body 3x3mm, Pitch 0.65mm, IPC High Density)
footprint MUA08A_M (TSOP, 8-Leads, Body 3x3mm, Pitch 0.65mm, IPC Low Density)
pins on every part: 4 V- (power), 8 V+ (power)
part A pins: 1 OUTA (out), 2 INA- (in), 3 INA+ (in)
part B pins: 5 INB+ (in), 6 INB- (in), 7 OUTB (out)

## LMP7721MA
designator U?
3 Femtoampere Input Bias Current Precision Amplifier, 8-pin Narrow SOIC; PartNumber: LMP7721MA; Manufacturer: National Semiconductor; PackageTopMarking: NSZXTT*LMP77*21MA; PowerWise: Y; CompType: Amplifiers; DatasheetVersion: Mar-2008; PackageVersion: revM, May-2009; PackageReference: M08A; PackageDescription: SOIC Narrow, 4.9 x 3.9 x 1.45mm, 8 Lead, 1.27mm Pitch; RoHS: Y; PinCount: 8; High-Reliability: Y; Code_JEDEC: MS-012-AA; Code_IPC: SOIC127P600-8; ComponentLink1Description: Manufacturer URL; ComponentLink1URL: http://www.national.com/; ComponentLink2Description: LMP7721 Datasheet; ComponentLink2URL: http://www.national.com/ds/LM/LMP7721.pdf; ComponentLink3Description: LMP7721 Web Page; ComponentLink3URL: http://www.national.com/pf/LM/LMP7721.html; ComponentLink4Description: M08A Package Page; ComponentLink4URL: http://www.national.com/packaging/folders/m08a.html
footprint M08A_N (SOIC, 8-Leads, Body 4.9x3.9mm, Pitch 1.27mm, IPC Medium Density)
footprint M08A_L (SOIC, 8-Leads, Body 4.9x3.9mm, Pitch 1.27mm, IPC High Density)
footprint M08A_M (SOIC, 8-Leads, Body 4.9x3.9mm, Pitch 1.27mm, IPC Low Density)
pins: 1 IN+ (in), 2 NC, 3 V- (power), 4 OUT (out), 5 NC, 6 V+ (power), 7 NC, 8 IN- (in)

## LMP7721MA/NOPB
designator U?
3 Femtoampere Input Bias Current Precision Amplifier, 8-pin Narrow SOIC, Pb-Free; PartNumber: LMP7721MA/NOPB; Manufacturer: National Semiconductor; PackageTopMarking: NSZXTT*LMP77*21MA; PowerWise: Y; CompType: Amplifiers; DatasheetVersion: Mar-2008; PackageVersion: revM, May-2009; PackageReference: M08A; PackageDescription: SOIC Narrow, 4.9 x 3.9 x 1.45mm, 8 Lead, 1.27mm Pitch; RoHS: Y; PinCount: 8; High-Reliability: Y; Code_JEDEC: MS-012-AA; Code_IPC: SOIC127P600-8; ComponentLink1Description: Manufacturer URL; ComponentLink1URL: http://www.national.com/; ComponentLink2Description: LMP7721 Datasheet; ComponentLink2URL: http://www.national.com/ds/LM/LMP7721.pdf; ComponentLink3Description: LMP7721 Web Page; ComponentLink3URL: http://www.national.com/pf/LM/LMP7721.html; ComponentLink4Description: M08A Package Page; ComponentLink4URL: http://www.national.com/packaging/folders/m08a.html
footprint M08A_N (SOIC, 8-Leads, Body 4.9x3.9mm, Pitch 1.27mm, IPC Medium Density)
footprint M08A_L (SOIC, 8-Leads, Body 4.9x3.9mm, Pitch 1.27mm, IPC High Density)
footprint M08A_M (SOIC, 8-Leads, Body 4.9x3.9mm, Pitch 1.27mm, IPC Low Density)
pins: 1 IN+ (in), 2 NC, 3 V- (power), 4 OUT (out), 5 NC, 6 V+ (power), 7 NC, 8 IN- (in)